# Altium schematic symbol library RadioG.SchLib: 2 symbols
Pins are listed as number, name and electrical type; pins without a type are passive.

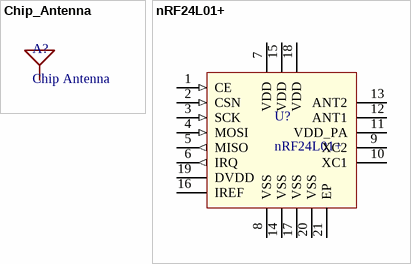
[diagram p0: symbols Chip_Antenna to nRF24L01+]

## Chip_Antenna
designator A?, comment Chip Antenna
pins: 1

## nRF24L01+
designator U?
2.4GHz Transceiver
footprint QFN50P400X400-20V5N (QFN, 20-Leads, Body 4x4mm, Pitch 0.5mm, IPC Medium Density)
footprint QFN50P400X400-20SN (QFN, 20-Leads, Body 4x4mm, Pitch 0.5mm, IPC Medium Density)
pins: 1 CE (in), 2 CSN (in), 3 SCK (in), 4 MOSI (in), 5 MISO (out), 6 IRQ (out), 7 VDD (power), 8 VSS (power), 9 XC2, 10 XC1, 11 VDD_PA, 12 ANT1, 13 ANT2, 14 VSS (power), 15 VDD (power), 16 IREF, 17 VSS (power), 18 VDD (power), 19 DVDD, 20 VSS (power), 21 EP (power)